# Altium schematic symbol library Altium_Box_Header_MPC3.SchLib: 202 symbols (part 5 of 5)
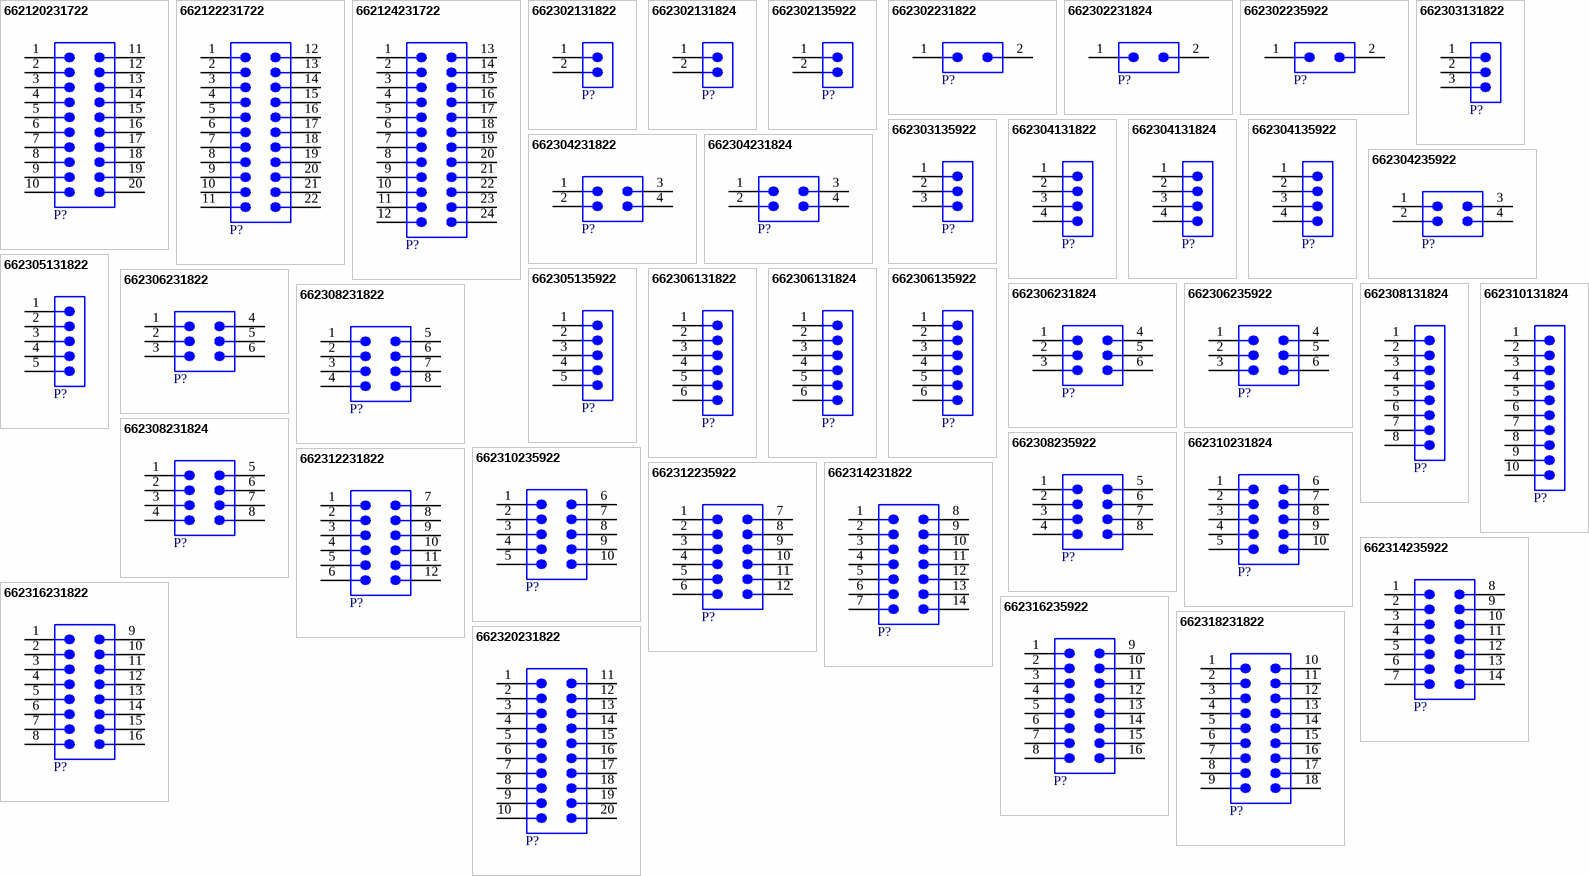
[diagram p9: symbols 662120231722 to 662320231822]

## 662316235922
designator P?  (value not drawn)
WR-MPC3 SMT Male Vertical Header with THT Retention Clip, pitch 3mm, 16p; Manufacturer: Wurth Elektronik; Contact Resistance: 10mOhm; Insulation Resistance: >1000MOhm; Rated Current: 5A; Working Voltage: 250V (AC); Manufacturer Part Number: 662316235922; Category: Wire-to-Board Connectors; Match Code: WR-MPC3; ComponentLink1Description: Datasheet; ComponentLink1URL: https://www.we-online.com/redexpert/spec/662316235922?ad; Mount: Surface Mount; Operating Temperature Max: 105°C; Operating Temperature Min: -40°C; Packaging: Tape and Reel with Cap; Length: 27.7mm; Width: 11.4mm; Height: 9.9mm; Gender: Male; Number of Pins: 16; Number of Rows: 2; Orientation: Vertical; Pitch: 3mm; LCSC Part #: N/A; Supplier 1: Mouser; Supplier 1 Part Number: N/A; Supplier 1 URL: N/A; Supplier 2: Digi-Key; Supplier 2 Part Number: N/A; Supplier 2 URL: N/A; Supplier 3: thegioiic; Supplier 3 Part Number: N/A; Supplier 3 URL: N/A
footprint 662316235922
pins: 1, 2, 3, 4, 5, 6, 7, 8, 9, 10, 11, 12, 13, 14, 15, 16

## 662318231822
designator P?  (value not drawn)
WR-MPC3 SMT Male Vertical Header with SMT Solder Tab, pitch 3mm, 18p; Manufacturer: Wurth Elektronik; Contact Resistance: 10mOhm; Insulation Resistance: >1000MOhm; Rated Current: 5A; Working Voltage: 250V (AC); Manufacturer Part Number: 662318231822; Category: Wire-to-Board Connectors; Match Code: WR-MPC3; ComponentLink1Description: Datasheet; ComponentLink1URL: https://www.we-online.com/redexpert/spec/662318231822?ad; Mount: Surface Mount; Operating Temperature Max: 105°C; Operating Temperature Min: -40°C; Packaging: Tape and Reel with Cap; Length: 30.7mm; Width: 11.4mm; Height: 11.4mm; Gender: Male; Number of Pins: 18; Number of Rows: 2; Orientation: Vertical; Pitch: 3mm; LCSC Part #: N/A; Supplier 1: Mouser; Supplier 1 Part Number: N/A; Supplier 1 URL: N/A; Supplier 2: Digi-Key; Supplier 2 Part Number: N/A; Supplier 2 URL: N/A; Supplier 3: thegioiic; Supplier 3 Part Number: N/A; Supplier 3 URL: N/A
footprint 662318231822
pins: 1, 2, 3, 4, 5, 6, 7, 8, 9, 10, 11, 12, 13, 14, 15, 16, 17, 18

## 662320231822
designator P?  (value not drawn)
WR-MPC3 SMT Male Vertical Header with SMT Solder Tab, pitch 3mm, 20p; Manufacturer: Wurth Elektronik; Contact Resistance: 10mOhm; Insulation Resistance: >1000MOhm; Rated Current: 5A; Working Voltage: 250V (AC); Manufacturer Part Number: 662320231822; Category: Wire-to-Board Connectors; Match Code: WR-MPC3; ComponentLink1Description: Datasheet; ComponentLink1URL: https://www.we-online.com/redexpert/spec/662320231822?ad; Mount: Surface Mount; Operating Temperature Max: 105°C; Operating Temperature Min: -40°C; Packaging: Tape and Reel with Cap; Length: 33.7mm; Width: 11.4mm; Height: 11.4mm; Gender: Male; Number of Pins: 20; Number of Rows: 2; Orientation: Vertical; Pitch: 3mm; LCSC Part #: N/A; Supplier 1: Mouser; Supplier 1 Part Number: N/A; Supplier 1 URL: N/A; Supplier 2: Digi-Key; Supplier 2 Part Number: N/A; Supplier 2 URL: N/A; Supplier 3: thegioiic; Supplier 3 Part Number: N/A; Supplier 3 URL: N/A
footprint 662320231822
pins: 1, 2, 3, 4, 5, 6, 7, 8, 9, 10, 11, 12, 13, 14, 15, 16, 17, 18, 19, 20

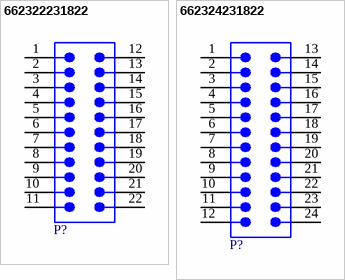
[diagram p5: symbols 662322231822 to 662324231822]

## 662322231822
designator P?  (value not drawn)
WR-MPC3 SMT Male Vertical Header with SMT Solder Tab, pitch 3mm, 22p; Manufacturer: Wurth Elektronik; Contact Resistance: 10mOhm; Insulation Resistance: >1000MOhm; Rated Current: 5A; Working Voltage: 250V (AC); Manufacturer Part Number: 662322231822; Category: Wire-to-Board Connectors; Match Code: WR-MPC3; ComponentLink1Description: Datasheet; ComponentLink1URL: https://www.we-online.com/redexpert/spec/662322231822?ad; Mount: Surface Mount; Operating Temperature Max: 105°C; Operating Temperature Min: -40°C; Packaging: Tape and Reel with Cap; Length: 36.7mm; Width: 11.4mm; Height: 11.4mm; Gender: Male; Number of Pins: 22; Number of Rows: 2; Orientation: Vertical; Pitch: 3mm; LCSC Part #: N/A; Supplier 1: Mouser; Supplier 1 Part Number: N/A; Supplier 1 URL: N/A; Supplier 2: Digi-Key; Supplier 2 Part Number: N/A; Supplier 2 URL: N/A; Supplier 3: thegioiic; Supplier 3 Part Number: N/A; Supplier 3 URL: N/A
footprint 662322231822
pins: 1, 2, 3, 4, 5, 6, 7, 8, 9, 10, 11, 12, 13, 14, 15, 16, 17, 18, 19, 20, 21, 22

## 662324231822
designator P?  (value not drawn)
WR-MPC3 SMT Male Vertical Header with SMT Solder Tab, pitch 3mm, 24p; Manufacturer: Wurth Elektronik; Contact Resistance: 10mOhm; Insulation Resistance: >1000MOhm; Rated Current: 5A; Working Voltage: 250V (AC); Manufacturer Part Number: 662324231822; Category: Wire-to-Board Connectors; Match Code: WR-MPC3; ComponentLink1Description: Datasheet; ComponentLink1URL: https://www.we-online.com/redexpert/spec/662324231822?ad; Mount: Surface Mount; Operating Temperature Max: 105°C; Operating Temperature Min: -40°C; Packaging: Tape and Reel with Cap; Length: 39.7mm; Width: 11.4mm; Height: 11.4mm; Gender: Male; Number of Pins: 24; Number of Rows: 2; Orientation: Vertical; Pitch: 3mm; LCSC Part #: N/A; Supplier 1: Mouser; Supplier 1 Part Number: N/A; Supplier 1 URL: N/A; Supplier 2: Digi-Key; Supplier 2 Part Number: N/A; Supplier 2 URL: N/A; Supplier 3: thegioiic; Supplier 3 Part Number: N/A; Supplier 3 URL: N/A
footprint 662324231822
pins: 1, 2, 3, 4, 5, 6, 7, 8, 9, 10, 11, 12, 13, 14, 15, 16, 17, 18, 19, 20, 21, 22, 23, 24